# Altium footprint library Componentes Deived Projetos PCB.PcbLib: 87 footprints (part 2 of 6)
Each footprint in its own frame and in the unit in brackets; x right, y up, seen from the top. Pads: shape width x height; smd on the part's side, far side on the other; paste and mask are expansions set on the pad; w line width, h text height; cw(c..) or ccw(c..) is an arc to the next point about the centre after c.
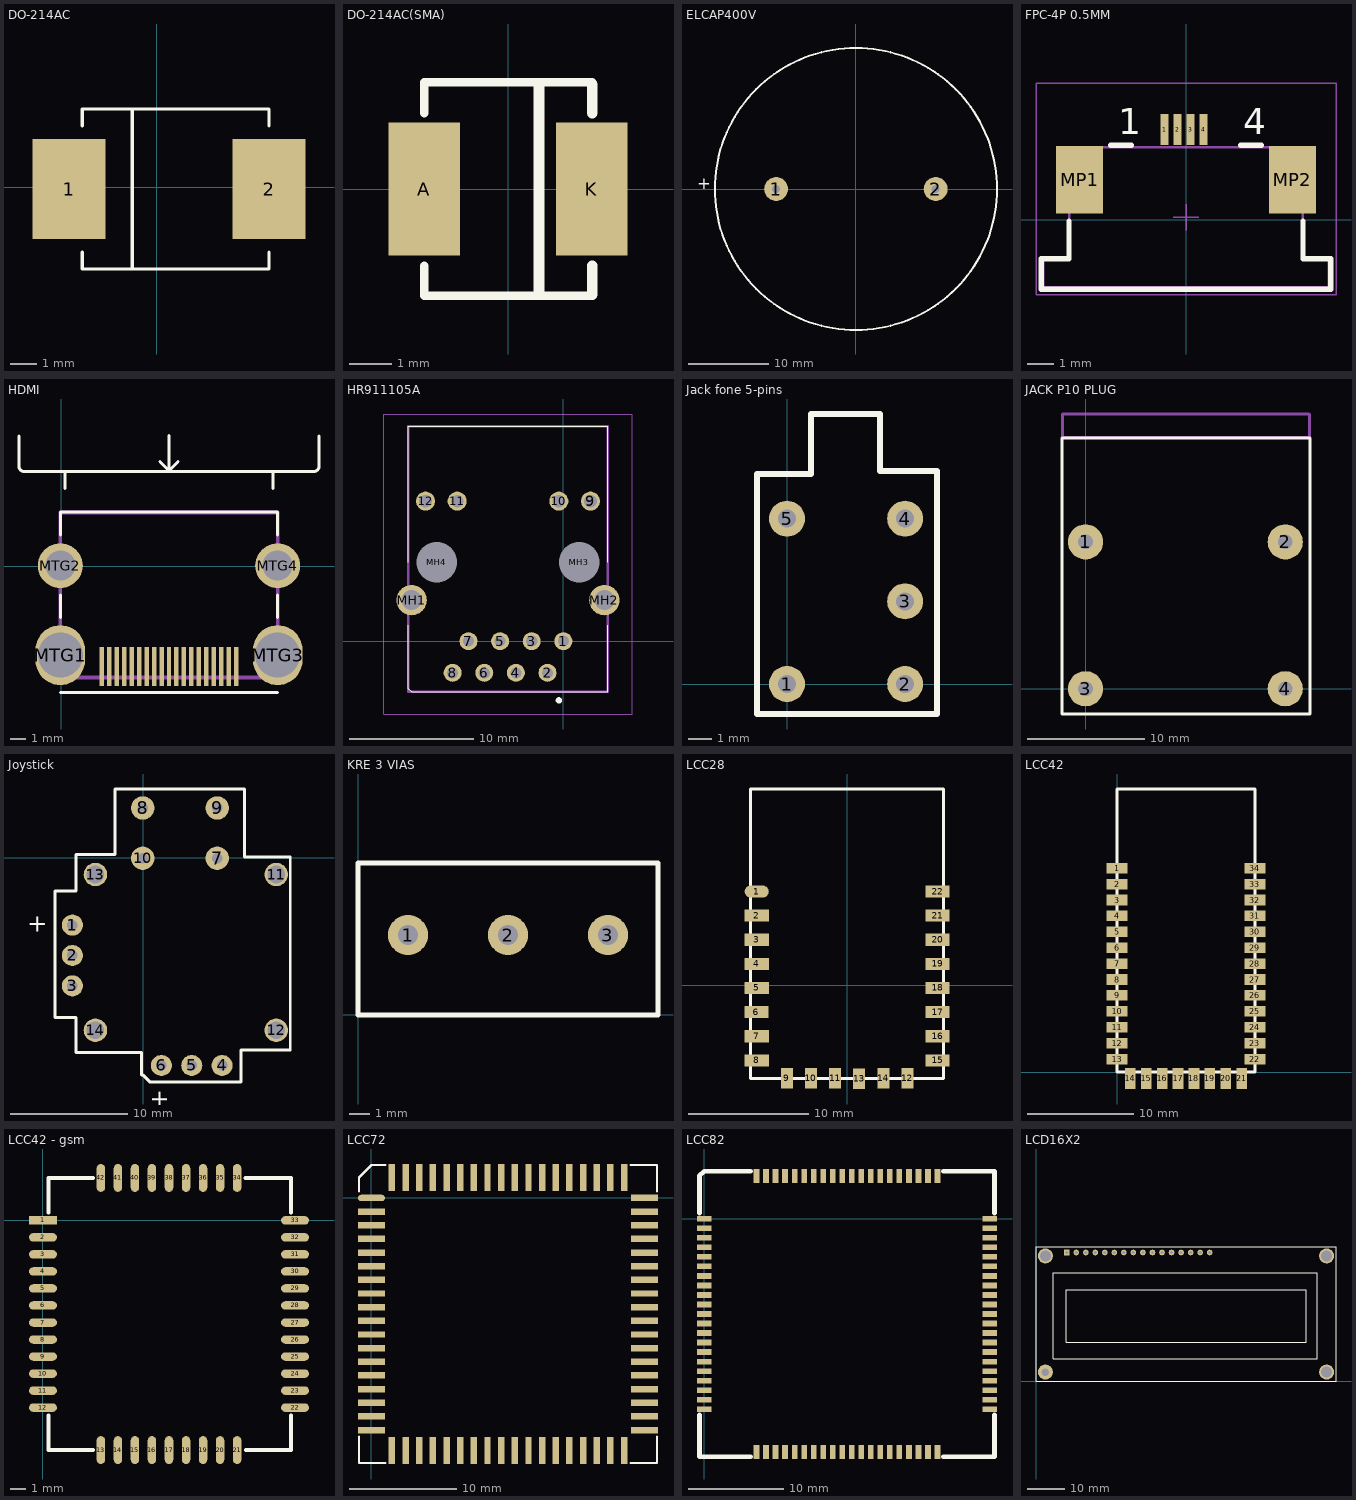
[diagram p1: the footprints below, top view; thin cyan lines are the x and y axes]

## DO-214AC [mm]
pads (2):
  rect 2.794x3.81 smd: 1(-3.35,-0.075) 2(4.27,-0.075)
Top Overlay:
  lines w0.127: -2.842,-2.488 -2.842,-3.123 4.27,-3.123 4.27,-2.488 ; -2.842,2.338 -2.842,2.973 4.27,2.973 4.27,2.338 ; -0.937,-3.123 -0.937,2.973
Mechanical 1:
  lines w0.025: -2.842,-3.123 4.27,-3.123 ; -2.842,2.973 4.27,2.973

## DO-214AC(SMA) [mm]
pads (2):
  rect 1.67x3.11 smd: A(-1.965,0) K(1.965,0)
Top Overlay:
  lines w0.2: -1.965,-1.8 -1.965,-2.5 1.975,-2.5 ; -1.965,1.78 -1.965,2.5 1.975,2.5
  lines w0.254: 0.725,-2.475 0.725,2.45 ; 1.975,-2.475 1.975,-1.8 ; 1.975,1.78 1.975,2.45

## ELCAP400V [mm]
pads (2):
  round 3 hole 1: 1(-10,0) 2(10,0)
Top Overlay:
  circle w0.254: c0,0 r17.685
  text "+" at -19.925,0 h1.52

## FPC-4P 0.5MM [mm]
pads (6):
  rect 0.3x1.2 smd: 1(-0.825,3.475) 2(-0.325,3.475) 3(0.175,3.475) 4(0.675,3.475)
  rect 1.8x2.6 smd: MP1(-4.1,1.55) MP2(4.1,1.55)
Top Overlay:
  lines w0.2: -4.5,-0.05 -4.5,-1.5 -5.575,-1.5 -5.575,-2.675 5.575,-2.675 5.575,-1.5 4.5,-1.5 4.5,-0.05 ; -2.9,2.875 -2.1,2.875 ; 2.1,2.875 2.9,2.875
  text "1" at -2.6,3.3 h1.02
  text "4" at 2.2,3.3 h1.02
Mechanical 13:
  lines w0.1: -5.5,-2.6 -5.5,-1.5 -4.5,-1.5 -4.5,2.8 4.5,2.8 4.5,-1.5 5.5,-1.5 5.5,-2.6 -5.5,-2.6
Mechanical 15:
  lines w0.05: -0.5,0.1 0.5,0.1 ; 0,-0.4 0,0.6 ; -5.775,-2.875 5.775,-2.875 5.775,5.25 -5.775,5.25 -5.775,-2.875
3D body: height 2.54, standoff -2.54, extent -2.528,-1.587 2.54,3.487

## HDMI [mm]
pads (23):
  rect 0.3x2.6 smd mask+0.025: 1(2.675,-6.685) 2(3.175,-6.685) 3(3.675,-6.685) 4(4.175,-6.685) 5(4.675,-6.685) 6(5.175,-6.685) 7(5.675,-6.685) 8(6.175,-6.685) 9(6.675,-6.685) 10(7.175,-6.685) 11(7.675,-6.685) 12(8.175,-6.685) 13(8.675,-6.685) 14(9.175,-6.685) 15(9.675,-6.685) 16(10.175,-6.685) 17(10.675,-6.685) 18(11.175,-6.685) 19(11.675,-6.685)
  oval 3.3x4 hole 3: MTG1(-0.075,-5.925) MTG3(14.425,-5.925)
  round 3 hole 2: MTG2(-0.075,0.035) MTG4(14.425,0.035)
Top Overlay:
  lines w0.2: -2.825,6.625 -2.825,8.675 ; -2.825,6.675 ccw(c-2.5,6.65) -2.525,6.325 16.875,6.325 ccw(c16.85,6.65) 17.175,6.675 17.175,8.675 ; -0.075,-8.425 14.425,-8.425 ; -0.075,-3.425 -0.075,-1.925 ; -0.075,2.075 -0.075,3.575 ; -0.075,3.625 14.375,3.625 14.425,3.575 14.425,2.075 ; 0.225,5.175 0.225,6.325 ; 6.575,6.975 7.175,6.375 ; 7.175,8.725 7.175,6.375 ; 7.775,6.975 7.175,6.375 ; 14.125,5.175 14.125,6.325 ; 14.425,-3.425 14.425,-1.925
Mechanical 1:
  text "plastic may go over the board edge" at -2.425,-9.925 h0.5
  text "doesnt fit on one place. Bottom" at -3.625,-9.825 h0.5
  text "NOTE: Holes are big and connector" at -4.825,-9.825 h0.5
Mechanical 29:
  lines w0.254: -0.075,-7.425 -0.075,3.575 14.425,3.575 14.425,-7.425 -0.075,-7.425
  text ".Designator" at 4.875,-2.825 h1.52
3D body "471510001.stp": height 6.28, standoff -2.1, extent -0.325,-7.525 14.675,4.625

## HR911105A [mm]
pads (16):
  round 1.446 hole 0.89: 1(0,0) 2(-1.27,-2.54) 3(-2.54,0) 4(-3.81,-2.54) 5(-5.08,0) 6(-6.35,-2.54) 7(-7.62,0) 8(-8.89,-2.54)
  round 1.53 hole 1.02: 9(2.18,11.25) 10(-0.36,11.25) 11(-8.53,11.25) 12(-11.07,11.25)
  round 2.445 hole 1.63: MH1(-12.19,3.3) MH2(3.3,3.3)
  round 1.625 hole 3.25 unplated: MH3(1.27,6.35) MH4(-10.16,6.35)
Top Overlay:
  lines w0.1: -12.465,1.27 -12.465,-3.81 -12.19,-4.05 3.575,-4.05 3.575,1.27 ; -12.465,6.35 -12.465,17.25 3.575,17.25 3.575,6.35
  lines w0.3: -0.36,-4.85 cw(c-0.36,-4.75) -0.36,-4.65 cw(c-0.36,-4.75) -0.36,-4.85
Mechanical 13:
  lines w0.2: -12.465,-4.05 3.575,-4.05 3.575,17.25 -12.465,17.25 -12.465,-4.05
Mechanical 15:
  lines w0.1: -14.413,-5.85 5.523,-5.85 5.523,18.25 -14.413,18.25 -14.413,-5.85
3D body "HR911105A.stp": height 13.85, standoff -5, extent -12.899,-4.05 4.015,17.25

## Jack fone 5-pins [mil]
pads (5):
  round 60 hole 30: 1(0,0) 2(196.85,0) 3(196.85,137.8) 4(196.85,275.59) 5(0,275.59)
Top Overlay:
  lines w10: -50,-50 250,-50 250,355 155,355 155,450 40,450 40,350 30,350 -50,350 -50,-50

## JACK P10 PLUG [mm]
pads (4):
  round 3 / inner oval 3x1.524 / far side oval 3x1.524 hole 1.25: 1(0,12.5) 2(17,12.5) 3(0,0) 4(17,0)
Top Overlay:
  lines w0.254: -2,-2.15 19.1,-2.15 19.1,21.34 -2,21.34 -2,-2.15
Mechanical 15:
  lines w0.254: -1.975,21.525 -1.975,23.385 19.015,23.385 19.075,23.325 19.075,21.4 19.05,21.375 -1.825,21.375 -1.975,21.525

## Joystick [mm]
pads (14):
  round 1.8 hole 0.9: 1(-6.037,-5.733) 2(-6.037,-8.323) 3(-6.037,-10.913) 4(6.743,-17.713) 5(4.153,-17.713) 6(1.563,-17.713)
  round 2 hole 0.9: 7(6.323,-0.023) 8(-0.027,4.267) 9(6.323,4.267) 10(-0.027,-0.023)
  round 2 hole 1.5: 11(11.363,-1.413) 12(11.363,-14.713) 13(-4.067,-1.413) 14(-4.067,-14.713)
Top Overlay:
  lines w0.254: -4.737,-16.613 -0.137,-16.613 -0.137,-18.013 ; -3.437,-16.613 -5.737,-16.613 -5.737,-13.613 -7.537,-13.613 -7.537,-2.813 -5.737,-2.813 -5.737,0.287 -5.262,0.287 -2.412,0.287 -2.412,5.887 8.663,5.887 8.663,0.087 12.563,0.087 12.563,-16.213 12.563,-16.413 8.363,-16.413 8.363,-18.113 8.363,-19.113 0.563,-19.113 -0.037,-18.513 -0.137,-18.513 -0.137,-18.013 ; -0.137,-18.113 -0.137,-18.013
  text "+" at 0.773,-19.723 h1.52
  text "+" at -8.137,-5.013 h1.52

## KRE 3 VIAS [mm]
pads (3):
  round 2 hole 1: 1(2.5,4) 2(7.5,4) 3(12.5,4)
Top Overlay:
  lines w0.254: 0,0 15,0 15,7.6 0,7.6 0,0

## LCC28 [mm]
pads (22):
  oval 2x1 smd: 1(-7.488,7.763)
  rect 2x1 smd: 2(-7.488,5.763) 3(-7.488,3.763) 4(-7.488,1.763) 5(-7.488,-0.237) 6(-7.512,-2.237) 7(-7.488,-4.237) 8(-7.488,-6.237) 15(7.512,-6.237) 16(7.512,-4.237) 17(7.512,-2.237) 18(7.512,-0.237) 19(7.512,1.763) 20(7.512,3.763) 21(7.512,5.763) 22(7.512,7.763)
  rect 1x1.7 smd: 9(-4.988,-7.737) 10(-2.987,-7.737) 11(-0.987,-7.737) 12(5.012,-7.737) 13(1.012,-7.762) 14(3.013,-7.737)
Top Overlay:
  lines w0.254: -7.987,-7.737 8.013,-7.737 8.013,16.263 -7.987,16.263 -7.987,-7.737

## LCC42 [mm]
pads (34):
  rect 2x1 smd: 1(0,19.225) 2(0,17.725) 3(0,16.225) 4(0,14.725) 5(0,13.225) 6(0,11.725) 7(0,10.225) 8(0,8.725) 9(0,7.225) 10(0,5.725) 11(0,4.225) 12(0,2.725) 13(0,1.225) 22(13,1.225) 23(13,2.725) 24(13,4.225) 25(13,5.725) 26(13,7.225) 27(13,8.725) 28(13,10.225) 29(13,11.725) 30(13,13.225) 31(13,14.725) 32(13,16.225) 33(13,17.725) 34(13,19.225)
  rect 1x2 smd: 14(1.25,-0.6) 15(2.75,-0.6) 16(4.25,-0.6) 17(5.75,-0.6) 18(7.25,-0.6) 19(8.75,-0.6) 20(10.25,-0.6) 21(11.75,-0.6)
Top Overlay:
  lines w0.254: -0.025,2 0,1.975 ; 0,0 0,26.7 13,26.7 13,0 0,0

## LCC42 - gsm [mm]
pads (42):
  rect 1.8x0.55 smd: 1(0,0)
  oval 1.8x0.55 smd: 2(0,-1.1) 3(0,-2.2) 4(0,-3.3) 5(0,-4.4) 6(0,-5.5) 7(0,-6.6) 8(0,-7.7) 9(0,-8.8) 10(0,-9.9) 11(0,-11) 12(0,-12.1) 22(16.3,-12.1) 23(16.3,-11) 24(16.3,-9.9) 25(16.3,-8.8) 26(16.3,-7.7) 27(16.3,-6.6) 28(16.3,-5.5) 29(16.3,-4.4) 30(16.3,-3.3) 31(16.3,-2.2) 32(16.3,-1.1) 33(16.3,0)
  oval 0.55x1.8 smd: 13(3.75,-14.85) 14(4.85,-14.85) 15(5.95,-14.85) 16(7.05,-14.85) 17(8.15,-14.85) 18(9.25,-14.85) 19(10.35,-14.85) 20(11.45,-14.85) 21(12.55,-14.85) 34(12.55,2.75) 35(11.45,2.75) 36(10.35,2.75) 37(9.25,2.75) 38(8.15,2.75) 39(7.05,2.75) 40(5.95,2.75) 41(4.85,2.75) 42(3.75,2.75)
Top Overlay:
  lines w0.254: 0.35,-12.625 0.35,-14.85 3.25,-14.85 ; 0.35,0.525 0.35,2.75 3.25,2.75 ; 13.1,2.75 16.05,2.75 16.05,0.525 ; 13.125,-14.85 16.05,-14.85 16.05,-12.625

## LCC72 [mm]
pads (72):
  oval 2.5x0.6 smd: 1(0,0)
  rect 2.5x0.6 smd: 2(0,-1.27) 3(0,-2.54) 4(0,-3.81) 5(0,-5.08) 6(0,-6.35) 7(0,-7.62) 8(0,-8.89) 9(0,-10.16) 10(0,-11.43) 11(0,-12.7) 12(0,-13.97) 13(0,-15.24) 14(0,-16.51) 15(0,-17.78) 16(0,-19.05) 17(0,-20.32) 18(0,-21.59) 37(25.41,-21.59) 38(25.41,-20.32) 39(25.41,-19.05) 40(25.41,-17.78) 41(25.41,-16.51) 42(25.41,-15.24) 43(25.41,-13.97) 44(25.41,-12.7) 45(25.41,-11.43) 46(25.41,-10.16) 47(25.41,-8.89) 48(25.41,-7.62) 49(25.41,-6.35) 50(25.41,-5.08) 51(25.41,-3.81) 52(25.41,-2.54) 53(25.41,-1.27) 54(25.41,0)
  rect 0.6x2.5 smd: 19(1.91,-23.5) 20(3.18,-23.5) 21(4.45,-23.5) 22(5.72,-23.5) 23(6.99,-23.5) 24(8.26,-23.5) 25(9.53,-23.5) 26(10.8,-23.5) 27(12.07,-23.5) 28(13.34,-23.5) 29(14.61,-23.5) 30(15.88,-23.5) 31(17.15,-23.5) 32(18.42,-23.5) 33(19.69,-23.5) 34(20.96,-23.5) 35(22.23,-23.5) 36(23.5,-23.5) 55(23.5,1.91) 56(22.23,1.91) 57(20.96,1.91) 58(19.69,1.91) 59(18.42,1.91) 60(17.15,1.91) 61(15.88,1.91) 62(14.61,1.91) 63(13.34,1.91) 64(12.07,1.91) 65(10.8,1.91) 66(9.53,1.91) 67(8.26,1.91) 68(6.99,1.91) 69(5.72,1.91) 70(4.45,1.91) 71(3.18,1.91) 72(1.91,1.91)
Top Overlay:
  lines w0.2: -1.15,-22.19 -1.15,-24.65 1.31,-24.65 ; -1.15,0.6 -1.15,1.91 0,3.06 1.31,3.06 ; 24.1,-24.65 26.56,-24.65 26.56,-22.19 ; 24.1,3.06 26.56,3.06 26.56,0.6

## LCC82 [mm]
pads (82):
  rect 1.5x0.6 smd: 1(0,0) 2(0,-1) 3(0,-2) 4(0,-3) 5(0,-4) 6(0,-5) 7(0,-6) 8(0,-7) 9(0,-8) 10(0,-9) 11(0,-10) 12(0,-11) 13(0,-12) 14(0,-13) 15(0,-14) 16(0,-15) 17(0,-16) 18(0,-17) 19(0,-18) 20(0,-19) 41(30,-19) 42(30,-18) 43(30,-17) 44(30,-16) 45(30,-15) 46(30,-14) 47(30,-13) 48(30,-12) 49(30,-11) 50(30,-10) 51(30,-9) 52(30,-8) 53(30,-7) 54(30,-6) 55(30,-5) 56(30,-4) 57(30,-3) 58(30,-2) 59(30,-1) 60(30,0) 81(0,-20) 82(30,-20)
  rect 0.6x1.5 smd: 21(5.5,-24.5) 22(6.5,-24.5) 23(7.5,-24.5) 24(8.5,-24.5) 25(9.5,-24.5) 26(10.5,-24.5) 27(11.5,-24.5) 28(12.5,-24.5) 29(13.5,-24.5) 30(14.5,-24.5) 31(15.5,-24.5) 32(16.5,-24.5) 33(17.5,-24.5) 34(18.5,-24.5) 35(19.5,-24.5) 36(20.5,-24.5) 37(21.5,-24.5) 38(22.5,-24.5) 39(23.5,-24.5) 40(24.5,-24.5) 61(24.5,4.5) 62(23.5,4.5) 63(22.5,4.5) 64(21.5,4.5) 65(20.5,4.5) 66(19.5,4.5) 67(18.5,4.5) 68(17.5,4.5) 69(16.5,4.5) 70(15.5,4.5) 71(14.5,4.5) 72(13.5,4.5) 73(12.5,4.5) 74(11.5,4.5) 75(10.5,4.5) 76(9.5,4.5) 77(8.5,4.5) 78(7.5,4.5) 79(6.5,4.5) 80(5.5,4.5)
Top Overlay:
  lines w0.5: -0.5,-20.6 -0.5,-25 4.9,-25 ; -0.5,0.6 -0.5,4.5 0,5 4.9,5 ; 25.1,-25 30.5,-25 30.5,-20.6 ; 25.1,5 30.5,5 30.5,0.6

## LCD16X2 [mm]
pads (20):
  rect 1.5x1.5 hole 0.9: 1(8.2,34.4)
  round 1.5 hole 0.9: 2(10.74,34.4) 3(13.28,34.4) 4(15.82,34.4) 5(18.36,34.4) 6(20.9,34.4) 7(23.44,34.4) 8(25.98,34.4) 9(28.52,34.4) 10(31.06,34.4) 11(33.6,34.4) 12(36.14,34.4) 13(38.68,34.4) 14(41.22,34.4) 15(43.76,34.4) 16(46.3,34.4)
  round 4 hole 2: ""(2.5,2.5)
  round 4 hole 3: ""(2.5,33.5) ""(77.5,2.5) ""(77.5,33.5)
Top Overlay:
  lines w0.254: 8.05,10.4 72.05,10.4 72.05,24.275 ; 8.05,10.525 8.05,24.4 72.05,24.4 ; 0,0 80,0 80,36 0,36 0,0 ; 4.65,6.1 75,6.1 75,29 4.65,29 4.65,6.1